# Altium schematic symbol library Jumper 4.SchLib: 1 symbol
Pins are listed as number, name and electrical type; pins without a type are passive.

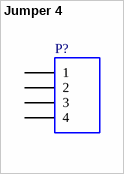
[diagram p0: symbol Jumper 4]

## Jumper 4
designator P?
Jumper / link header, 4-Pin
pins: 1, 2, 3, 4